# Altium footprint library 5054331271.PcbLib: 1 footprints
Each footprint in its own frame and in the unit in brackets; x right, y up, seen from the top. Pads: shape width x height; smd on the part's side, far side on the other; paste and mask are expansions set on the pad; w line width, h text height; cw(c..) or ccw(c..) is an arc to the next point about the centre after c.
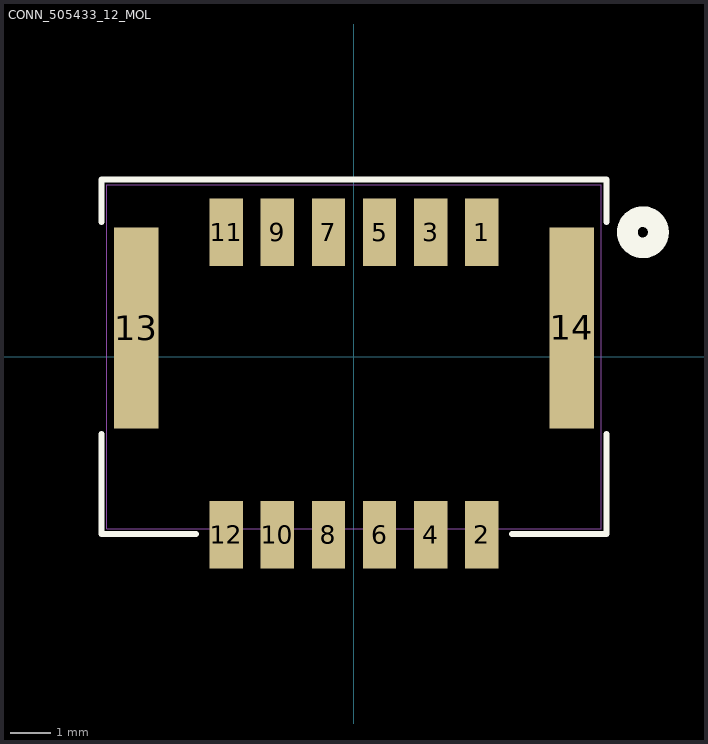
[diagram p0: the footprint, top view; thin cyan lines are the x and y axes]

## CONN_505433_12_MOL [mil]
pads (14):
  rect 32x65 smd paste+0 mask+0: 1(123.03,119.83) 2(123.03,-171.11) 3(73.82,119.83) 4(73.82,-171.11) 5(24.61,119.83) 6(24.61,-171.11) 7(-24.61,119.83) 8(-24.61,-171.11) 9(-73.82,119.83) 10(-73.82,-171.11) 11(-123.03,119.83) 12(-123.03,-171.11)
  rect 43x193 smd paste+0 mask+0: 13(-209.65,27.7) 14(209.65,27.7)
Top Overlay:
  circle w20: c278,119.83 r15
  lines w6: -243,-74.37 -243,-170.5 -152.13,-170.5 ; -243,129.78 -243,170.5 243,170.5 243,129.78 ; 152.13,-170.5 243,-170.5 243,-74.37
Bottom Overlay:
  circle w20: c278,119.83 r15
Mechanical 13:
  lines w1: -238,-165.5 238,-165.5 238,165.5 -238,165.5 -238,-165.5